# Altium footprint library SSW10722FDRA.PCBLIB: 1 footprints
Each footprint in its own frame and in the unit in brackets; x right, y up, seen from the top. Pads: shape width x height; smd on the part's side, far side on the other; paste and mask are expansions set on the pad; w line width, h text height; cw(c..) or ccw(c..) is an arc to the next point about the centre after c.
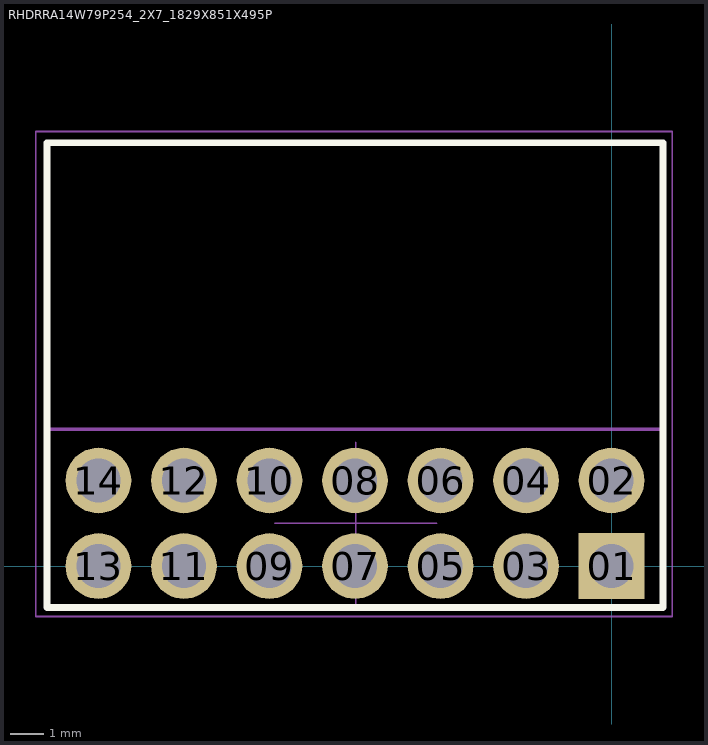
[diagram p0: the footprint, top view; thin cyan lines are the x and y axes]

## RHDRRA14W79P254_2X7_1829X851X495P [mm]
pads (14):
  rect 1.95x1.95 hole 1.3: 01(0,0)
  round 1.95 hole 1.3: 02(0,2.54) 03(-2.54,0) 04(-2.54,2.54) 05(-5.08,0) 06(-5.08,2.54) 07(-7.62,0) 08(-7.62,2.54) 09(-10.16,0) 10(-10.16,2.54) 11(-12.7,0) 12(-12.7,2.54) 13(-15.24,0) 14(-15.24,2.54)
Top Overlay:
  lines w0.2: -16.765,-1.23 1.525,-1.23 ; -16.765,-1.2 -16.765,12.57 1.525,12.57 1.525,-1.2
Top Assembly:
  lines w0.1: -16.765,4.06 1.525,4.06 1.525,12.57 -16.765,12.57 -16.765,4.06
Top Courtyard:
  lines w0.05: -17.1,-1.5 1.8,-1.5 1.8,12.908 -16,12.908 -17.1,12.908 -17.1,-1.5
Top Designator:
  text ".Designator" at -16.45,13.607 h2.5
Top Component Center:
  lines w0.05: -10,1.27 -5.2,1.27 ; -7.6,-1.13 -7.6,3.67
3D body "SSW-107-02-G-D-RA-001.stp": height 4.95, standoff -2.54, extent -16.765,-0.395 1.525,12.57